# EAGLE library part ADC-* (library VideoConnectors)
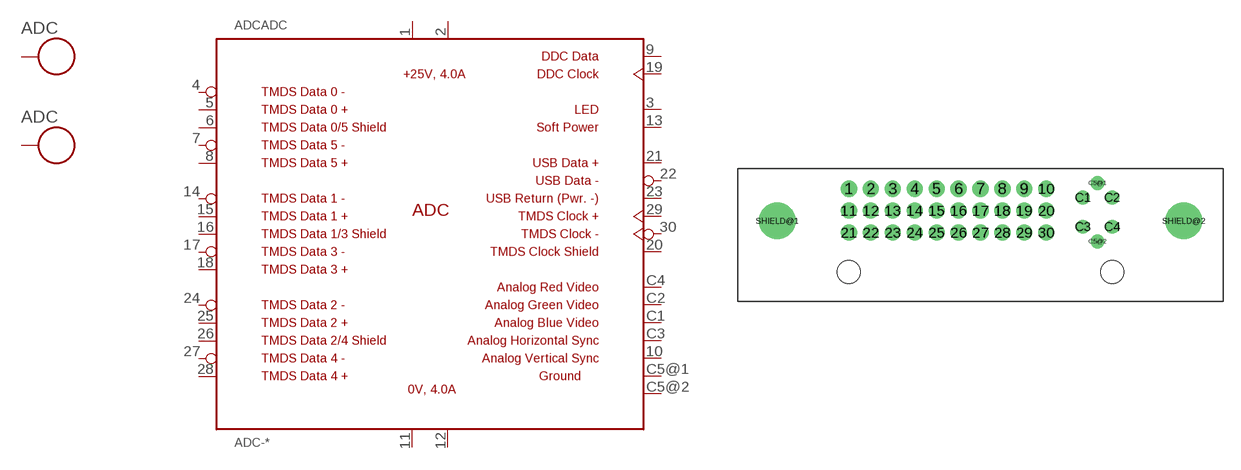
[diagram p0: symbol with the pads of JAE-ADC-T1YA; footprint JAE-ADC-T1YA]

Designator prefix ADC; gates ADC=CON-ADC-35 SH1=SHIELD SH2=SHIELD

## ADC-JAE  [JAE-ADC-T1YA]
1  ADC:V+  pwr
2  ADC:V+  pwr
3  ADC:ADC-LED  pas
4  ADC:TDMS-D0-
5  ADC:TDMS-D0+
6  ADC:TDMS-0/5-SHIELD  pas
7  ADC:TDMS-D5-
8  ADC:TDMS-D5+
9  ADC:DDC-D
10  ADC:VGA-VSYNC
11  ADC:V-  pwr
12  ADC:V-  pwr
13  ADC:ADC-SOFT_POWER
14  ADC:TDMS-D1-
15  ADC:TDMS-D1+
16  ADC:TDMS-1/3-SHIELD  pas
17  ADC:TDMS-D3-
18  ADC:TDMS-D3+
19  ADC:DDC-C
20  ADC:TDMS-CLK-SHIELD
21  ADC:USB-D+
22  ADC:USB-D-
23  ADC:USB-GND
24  ADC:TDMS-D2-
25  ADC:TDMS-D2+
26  ADC:TDMS-2/4-SHIELD  pas
27  ADC:TDMS-D4-
28  ADC:TDMS-D4+
29  ADC:TDMS-CLK+
30  ADC:TDMS-CLK-
C1  ADC:VGA-B
C2  ADC:VGA-G
C3  ADC:VGA-HSYNC
C4  ADC:VGA-R
C5@1  ADC:GND
C5@2  ADC:GND
SHIELD@1  SH1:SHIELD  pas
SHIELD@2  SH2:SHIELD  pas

## Footprint JAE-ADC-T1YA (pad centres in mm)
drill 0.9 round: 1 -11.43,9.779; 2 -9.525,9.779; 3 -7.62,9.779; 4 -5.715,9.779; 5 -3.81,9.779; 6 -1.905,9.779; 7 0,9.779; 8 1.905,9.779; 9 3.81,9.779; 10 5.715,9.779; 11 -11.43,7.874; 12 -9.525,7.874; 13 -7.62,7.874; 14 -5.715,7.874; 15 -3.81,7.874; 16 -1.905,7.874; 17 0,7.874; 18 1.905,7.874; 19 3.81,7.874; 20 5.715,7.874; 21 -11.43,5.969; 22 -9.525,5.969; 23 -7.62,5.969; 24 -5.715,5.969; 25 -3.81,5.969; 26 -1.905,5.969; 27 0,5.969; 28 1.905,5.969; 29 3.81,5.969; 30 5.715,5.969
drill 0.7 pad 1.016 round: C1 8.89,9.017; C2 11.43,9.017; C3 8.89,6.477; C4 11.43,6.477; C5@1 10.16,10.287; C5@2 10.16,5.207
drill 1.7 pad 3.175 round: SHIELD@1 -17.653,6.985; SHIELD@2 17.653,6.985
hole 2 at -11.43,2.54
hole 2 at 11.43,2.54